# Altium footprint library wulpus.PcbLib: 62 footprints (part 4 of 4)
Each footprint in its own frame and in the unit in brackets; x right, y up, seen from the top. Pads: shape width x height; smd on the part's side, far side on the other; paste and mask are expansions set on the pad; w line width, h text height; cw(c..) or ccw(c..) is an arc to the next point about the centre after c.
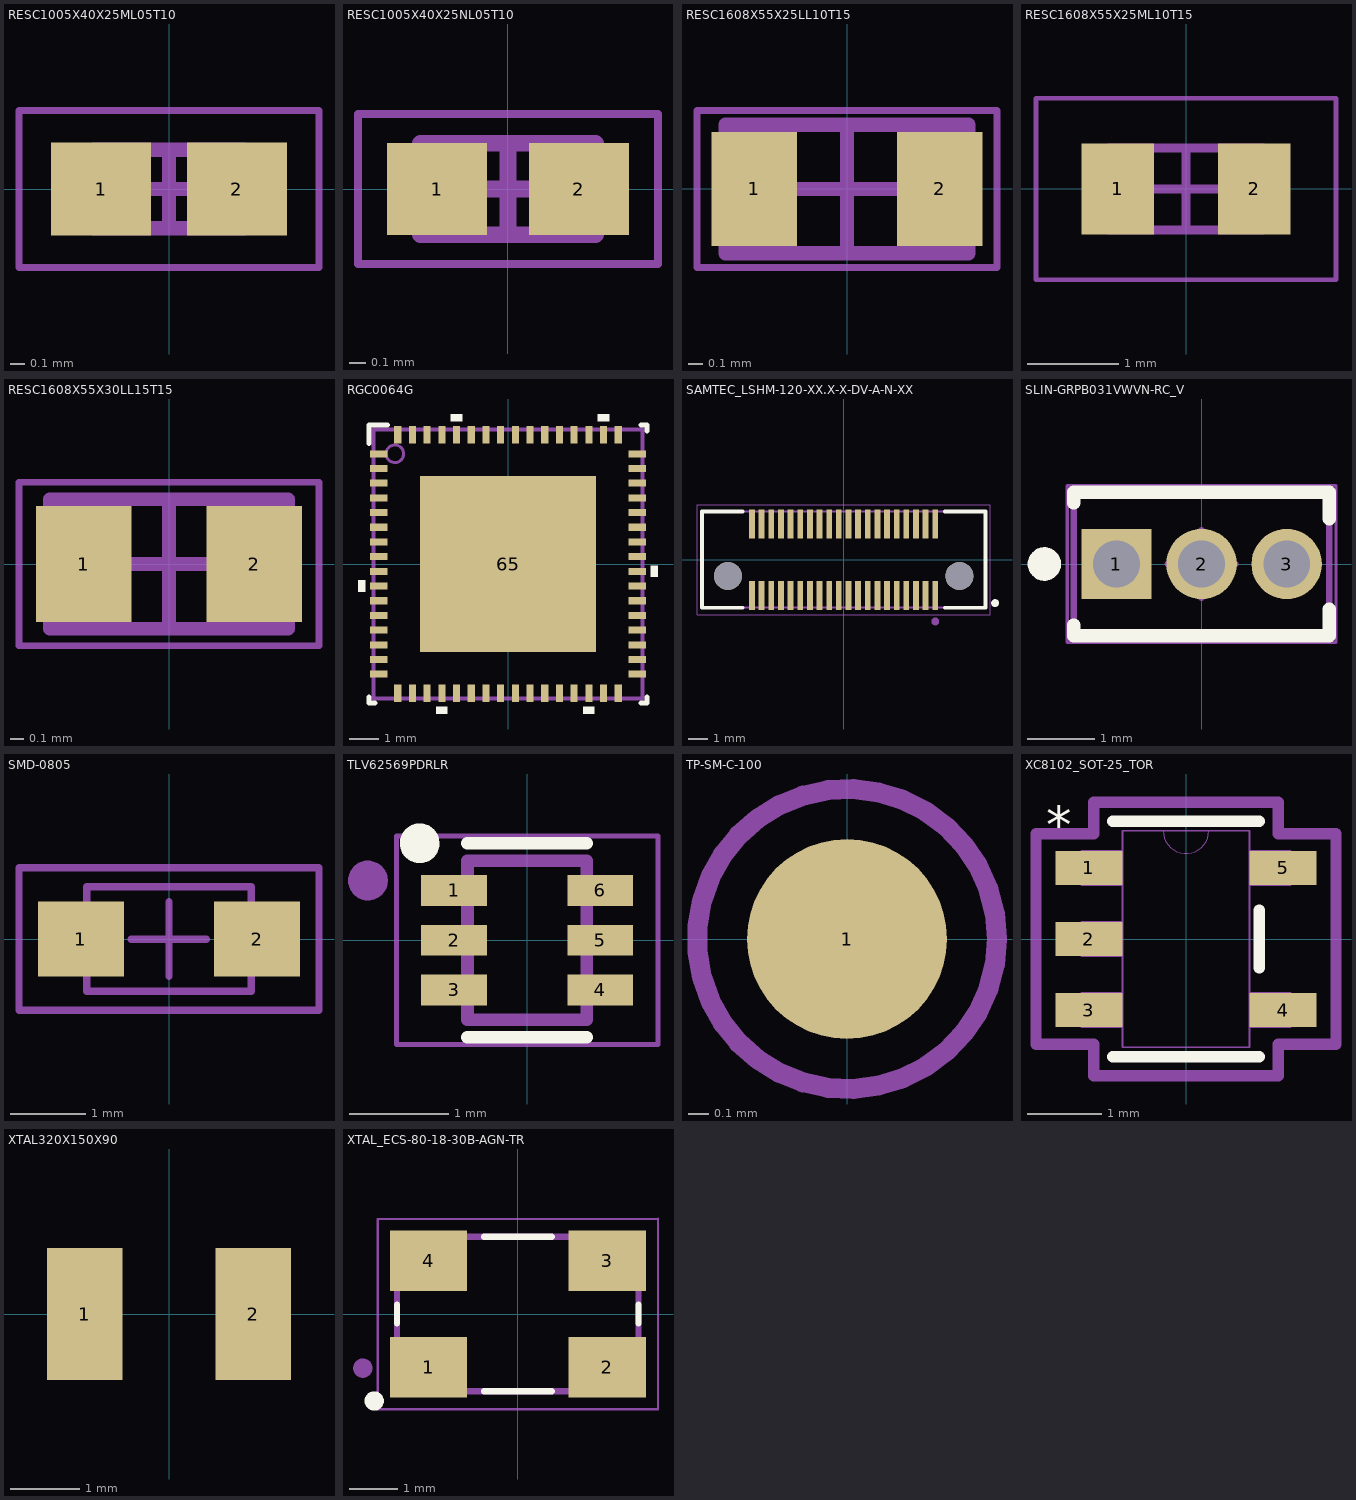
[diagram p3: the footprints below, top view; thin cyan lines are the x and y axes]

## RESC1005X40X25ML05T10 [mm]
pads (2):
  rect 0.7x0.65 smd: 1(-0.475,0) 2(0.475,0)
Top 3D Body:
  lines w0.1: -0.525,-0.275 0.525,-0.275 0.525,0.275 -0.525,0.275 -0.525,-0.275
Top Courtyard:
  lines w0.05: -1.05,-0.55 -1.05,0.55 1.05,0.55 1.05,-0.55 -1.05,-0.55
  lines w0.1: -0.275,0 0.275,0 ; 0,-0.275 0,0.275
3D body: height 0.4, standoff 0, extent 0.275,-0.275 0.525,0.275
3D body: height 0.4, standoff 0, extent -0.275,-0.275 0.275,0.275
3D body: height 0.4, standoff 0, extent -0.525,-0.275 -0.275,0.275

## RESC1005X40X25NL05T10 [mm]
pads (2):
  rect 0.6x0.55 smd: 1(-0.425,0) 2(0.425,0)
Top 3D Body:
  lines w0.1: -0.525,-0.275 0.525,-0.275 0.525,0.275 -0.525,0.275 -0.525,-0.275
Top Courtyard:
  lines w0.05: -0.9,-0.45 -0.9,0.45 0.9,0.45 0.9,-0.45 -0.9,-0.45
  lines w0.1: -0.275,0 0.275,0 ; 0,-0.275 0,0.275
3D body: height 0.4, standoff 0, extent 0.275,-0.275 0.525,0.275
3D body: height 0.4, standoff 0, extent -0.275,-0.275 0.275,0.275
3D body: height 0.4, standoff 0, extent -0.525,-0.275 -0.275,0.275

## RESC1608X55X25LL10T15 [mm]
pads (2):
  rect 0.6x0.8 smd: 1(-0.65,0) 2(0.65,0)
Top 3D Body:
  lines w0.1: -0.85,-0.45 -0.85,0.45 0.85,0.45 0.85,-0.45 -0.85,-0.45
Top Courtyard:
  lines w0.05: -1.05,-0.55 -1.05,0.55 1.05,0.55 1.05,-0.55 -1.05,-0.55
  lines w0.1: -0.45,0 0.45,0 ; 0,-0.45 0,0.45
3D body: height 0.55, standoff 0, extent -0.6,-0.45 0.6,0.45
3D body: height 0.55, standoff 0, extent -0.85,-0.45 -0.6,0.45
3D body: height 0.55, standoff 0, extent 0.6,-0.45 0.85,0.45

## RESC1608X55X25ML10T15 [mm]
pads (2):
  rect 0.8x1 smd: 1(-0.75,0) 2(0.75,0)
Top 3D Body:
  lines w0.1: -0.85,-0.45 -0.85,0.45 0.85,0.45 0.85,-0.45 -0.85,-0.45
Top Courtyard:
  lines w0.05: -1.65,-1 1.65,-1 1.65,1 -1.65,1 -1.65,-1
  lines w0.1: -0.45,0 0.45,0 ; 0,-0.45 0,0.45
3D body: height 0.55, standoff 0, extent -0.6,-0.45 0.6,0.45
3D body: height 0.55, standoff 0, extent 0.6,-0.45 0.85,0.45
3D body: height 0.55, standoff 0, extent -0.85,-0.45 -0.6,0.45

## RESC1608X55X30LL15T15 [mm]
pads (2):
  rect 0.7x0.85 smd: 1(-0.625,0) 2(0.625,0)
Top 3D Body:
  lines w0.1: -0.875,-0.475 -0.875,0.475 0.875,0.475 0.875,-0.475 -0.875,-0.475
Top Courtyard:
  lines w0.05: -1.1,-0.6 1.1,-0.6 1.1,0.6 -1.1,0.6 -1.1,-0.6
  lines w0.1: -0.475,0 0.475,0 ; 0,-0.475 0,0.475
3D body: height 0.55, standoff 0, extent 0.575,-0.475 0.875,0.475
3D body: height 0.55, standoff 0, extent -0.575,-0.475 0.575,0.475
3D body: height 0.55, standoff 0, extent -0.875,-0.475 -0.575,0.475

## RGC0064G [mm]
pads (65):
  rect 0.6x0.24 smd paste+0 mask+0: 1(-4.4,3.75) 2(-4.4,3.25) 3(-4.4,2.75) 4(-4.4,2.25) 5(-4.4,1.75) 6(-4.4,1.25) 7(-4.4,0.75) 8(-4.4,0.25) 9(-4.4,-0.25) 10(-4.4,-0.75) 11(-4.4,-1.25) 12(-4.4,-1.75) 13(-4.4,-2.25) 14(-4.4,-2.75) 15(-4.4,-3.25) 16(-4.4,-3.75) 33(4.4,-3.75) 34(4.4,-3.25) 35(4.4,-2.75) 36(4.4,-2.25) 37(4.4,-1.75) 38(4.4,-1.25) 39(4.4,-0.75) 40(4.4,-0.25) 41(4.4,0.25) 42(4.4,0.75) 43(4.4,1.25) 44(4.4,1.75) 45(4.4,2.25) 46(4.4,2.75) 47(4.4,3.25) 48(4.4,3.75)
  rect 0.24x0.6 smd paste+0 mask+0: 17(-3.751,-4.4) 18(-3.251,-4.4) 19(-2.751,-4.4) 20(-2.251,-4.4) 21(-1.75,-4.4) 22(-1.25,-4.4) 23(-0.75,-4.4) 24(-0.25,-4.4) 25(0.25,-4.4) 26(0.75,-4.4) 27(1.25,-4.4) 28(1.75,-4.4) 29(2.251,-4.4) 30(2.751,-4.4) 31(3.251,-4.4) 32(3.751,-4.4) 49(3.751,4.4) 50(3.251,4.4) 51(2.751,4.4) 52(2.251,4.4) 53(1.75,4.4) 54(1.25,4.4) 55(0.75,4.4) 56(0.25,4.4) 57(-0.25,4.4) 58(-0.75,4.4) 59(-1.25,4.4) 60(-1.75,4.4) 61(-2.251,4.4) 62(-2.751,4.4) 63(-3.251,4.4) 64(-3.751,4.4)
  rect 6x6 smd paste-3 mask+0: 65(0,0)
Top Overlay:
  region: -1.56,5.103 -1.56,4.849 -1.941,4.849 -1.941,5.103
  region: 3.441,5.103 3.441,4.849 3.06,4.849 3.06,5.103
  region: 4.849,-0.44 4.849,-0.059 5.103,-0.059 5.103,-0.44
  region: 2.941,-5.103 2.941,-4.849 2.56,-4.849 2.56,-5.103
  region: -2.06,-5.103 -2.06,-4.849 -2.441,-4.849 -2.441,-5.103
  region: -4.849,-0.941 -4.849,-0.56 -5.103,-0.56 -5.103,-0.941
  lines w0.178: -4.725,-4.525 -4.725,-4.725 -4.525,-4.725 ; -4.725,4.096 -4.725,4.725 -4.097,4.725 ; 4.525,-4.725 4.725,-4.725 4.725,-4.525 ; 4.525,4.725 4.725,4.725 4.725,4.525
Top Paste:
  region: 1.84,-1.84 1.84,-2.8 2.8,-2.8 2.8,-1.84
  region: 0.68,-1.84 0.68,-2.8 1.64,-2.8 1.64,-1.84
  region: -0.48,-1.84 -0.48,-2.8 0.48,-2.8 0.48,-1.84
  region: 1.84,-0.68 1.84,-1.64 2.8,-1.64 2.8,-0.68
  region: 0.68,-0.68 0.68,-1.64 1.64,-1.64 1.64,-0.68
  region: -1.64,-1.84 -1.64,-2.8 -0.68,-2.8 -0.68,-1.84
  region: -2.8,-1.84 -2.8,-2.8 -1.84,-2.8 -1.84,-1.84
  region: -2.8,-0.68 -2.8,-1.64 -1.84,-1.64 -1.84,-0.68
  region: -1.64,-0.68 -1.64,-1.64 -0.68,-1.64 -0.68,-0.68
  region: -0.48,-0.68 -0.48,-1.64 0.48,-1.64 0.48,-0.68
  region: 1.84,0.48 1.84,-0.48 2.8,-0.48 2.8,0.48
  region: 1.84,1.64 1.84,0.68 2.8,0.68 2.8,1.64
  region: 0.68,1.64 0.68,0.68 1.64,0.68 1.64,1.64
  region: 1.84,2.8 1.84,1.84 2.8,1.84 2.8,2.8
  region: 0.68,2.8 0.68,1.84 1.64,1.84 1.64,2.8
  region: -0.48,2.8 -0.48,1.84 0.48,1.84 0.48,2.8
  region: -1.64,2.8 -1.64,1.84 -0.68,1.84 -0.68,2.8
  region: -2.8,2.8 -2.8,1.84 -1.84,1.84 -1.84,2.8
  region: -0.48,1.64 -0.48,0.68 0.48,0.68 0.48,1.64
  region: -1.64,1.64 -1.64,0.68 -0.68,0.68 -0.68,1.64
  region: -2.8,1.64 -2.8,0.68 -1.84,0.68 -1.84,1.64
  region: -2.8,0.48 -2.8,-0.48 -1.84,-0.48 -1.84,0.48
  region: 0.68,0.48 0.68,-0.48 1.64,-0.48 1.64,0.48
  region: -1.64,0.48 -1.64,-0.48 -0.68,-0.48 -0.68,0.48
  region: -0.48,0.48 -0.48,-0.48 0.48,-0.48 0.48,0.48
Top 3D Body:
  circle w0.1: c-3.85,3.75 r0.3
  lines w0.127: -4.575,-4.575 -4.575,4.575 4.575,4.575 4.575,-4.575 -4.575,-4.575 ; -4.575,-3.9 -4.575,-3.6 -4.575,-3.9 ; -4.575,-3.4 -4.575,-3.1 -4.575,-3.4 ; -4.575,-2.9 -4.575,-2.6 -4.575,-2.9 ; -4.575,-2.4 -4.575,-2.1 -4.575,-2.4 ; -4.575,-1.9 -4.575,-1.6 -4.575,-1.9 ; -4.575,-1.4 -4.575,-1.1 -4.575,-1.4 ; -4.575,-0.9 -4.575,-0.6 -4.575,-0.9 ; -4.575,-0.4 -4.575,-0.1 -4.575,-0.4 ; -4.575,0.1 -4.575,0.4 -4.575,0.1 ; -4.575,0.6 -4.575,0.9 -4.575,0.6 ; -4.575,1.1 -4.575,1.4 -4.575,1.1 ; -4.575,1.6 -4.575,1.9 -4.575,1.6 ; -4.575,2.1 -4.575,2.4 -4.575,2.1 ; -4.575,2.6 -4.575,2.9 -4.575,2.6 ; -4.575,3.1 -4.575,3.4 -4.575,3.1 ; -4.575,3.6 -4.575,3.9 -4.575,3.6 ; -3.9,-4.575 -3.6,-4.575 -3.9,-4.575 ; -3.9,4.575 -3.6,4.575 -3.9,4.575 ; -3.4,-4.575 -3.1,-4.575 -3.4,-4.575 ; -3.4,4.575 -3.1,4.575 -3.4,4.575 ; -2.9,-4.575 -2.6,-4.575 -2.9,-4.575 ; -2.9,4.575 -2.6,4.575 -2.9,4.575 ; -2.4,-4.575 -2.1,-4.575 -2.4,-4.575 ; -2.4,4.575 -2.1,4.575 -2.4,4.575 ; -1.9,-4.575 -1.6,-4.575 -1.9,-4.575 ; -1.9,4.575 -1.6,4.575 -1.9,4.575 ; -1.4,-4.575 -1.1,-4.575 -1.4,-4.575 ; -1.4,4.575 -1.1,4.575 -1.4,4.575 ; -0.9,-4.575 -0.6,-4.575 -0.9,-4.575 ; -0.9,4.575 -0.6,4.575 -0.9,4.575 ; -0.4,-4.575 -0.1,-4.575 -0.4,-4.575 ; -0.4,4.575 -0.1,4.575 -0.4,4.575 ; 0.1,-4.575 0.4,-4.575 0.1,-4.575 ; 0.1,4.575 0.4,4.575 0.1,4.575 ; 0.6,-4.575 0.9,-4.575 0.6,-4.575 ; 0.6,4.575 0.9,4.575 0.6,4.575 ; 1.1,-4.575 1.4,-4.575 1.1,-4.575 ; 1.1,4.575 1.4,4.575 1.1,4.575 ; 1.6,-4.575 1.9,-4.575 1.6,-4.575 ; 1.6,4.575 1.9,4.575 1.6,4.575 ; 2.1,-4.575 2.4,-4.575 2.1,-4.575 ; 2.1,4.575 2.4,4.575 2.1,4.575 ; 2.6,-4.575 2.9,-4.575 2.6,-4.575 ; 2.6,4.575 2.9,4.575 2.6,4.575 ; 3.1,-4.575 3.4,-4.575 3.1,-4.575 ; 3.1,4.575 3.4,4.575 3.1,4.575 ; 3.6,-4.575 3.9,-4.575 3.6,-4.575 ; 3.6,4.575 3.9,4.575 3.6,4.575 ; 4.575,-3.9 4.575,-3.6 4.575,-3.9 ; 4.575,-3.4 4.575,-3.1 4.575,-3.4 ; 4.575,-2.9 4.575,-2.6 4.575,-2.9 ; 4.575,-2.4 4.575,-2.1 4.575,-2.4 ; 4.575,-1.9 4.575,-1.6 4.575,-1.9 ; 4.575,-1.4 4.575,-1.1 4.575,-1.4 ; 4.575,-0.9 4.575,-0.6 4.575,-0.9 ; 4.575,-0.4 4.575,-0.1 4.575,-0.4 ; 4.575,0.1 4.575,0.4 4.575,0.1 ; 4.575,0.6 4.575,0.9 4.575,0.6 ; 4.575,1.1 4.575,1.4 4.575,1.1 ; 4.575,1.6 4.575,1.9 4.575,1.6 ; 4.575,2.1 4.575,2.4 4.575,2.1 ; 4.575,2.6 4.575,2.9 4.575,2.6 ; 4.575,3.1 4.575,3.4 4.575,3.1 ; 4.575,3.6 4.575,3.9 4.575,3.6
  text ".Designator" at -1.85,-1.135 h1.27
3D body "RGC0064B.stp": height 1, standoff 0, extent -4.5,-4.5 4.5,4.5
3D body: height 0.25, standoff 0, extent 0,0 0.254,0.254

## SAMTEC_LSHM-120-XX.X-X-DV-A-N-XX [mm]
pads (42):
  rect 0.3x1.5 smd: 01(4.75,-1.85) 02(4.75,1.85) 03(4.25,-1.85) 04(4.25,1.85) 05(3.75,-1.85) 06(3.75,1.85) 07(3.25,-1.85) 08(3.25,1.85) 09(2.75,-1.85) 10(2.75,1.85) 11(2.25,-1.85) 12(2.25,1.85) 13(1.75,-1.85) 14(1.75,1.85) 15(1.25,-1.85) 16(1.25,1.85) 17(0.75,-1.85) 18(0.75,1.85) 19(0.25,-1.85) 20(0.25,1.85) 21(-0.25,-1.85) 22(-0.25,1.85) 23(-0.75,-1.85) 24(-0.75,1.85) 25(-1.25,-1.85) 26(-1.25,1.85) 27(-1.75,-1.85) 28(-1.75,1.85) 29(-2.25,-1.85) 30(-2.25,1.85) 31(-2.75,-1.85) 32(-2.75,1.85) 33(-3.25,-1.85) 34(-3.25,1.85) 35(-3.75,-1.85) 36(-3.75,1.85) 37(-4.25,-1.85) 38(-4.25,1.85) 39(-4.75,-1.85) 40(-4.75,1.85)
  round 1.45 hole 1.45 unplated: ""(-6,-0.85) ""(6,-0.85)
Top Overlay:
  circle w0.2: c7.85,-2.25 r0.1
  lines w0.2: -5.25,-2.49 -7.35,-2.49 -7.35,2.49 -5.25,2.49 ; 5.25,-2.49 7.35,-2.49 7.35,2.49 5.25,2.49
Top 3D Body:
  circle w0.2: c4.75,-3.2 r0.1
  lines w0.1: -7.35,-2.49 7.35,-2.49 7.35,2.49 -7.35,2.49 -7.35,-2.49
Top Courtyard:
  lines w0.05: -7.6,-2.85 7.6,-2.85 7.6,2.85 -7.6,2.85 -7.6,-2.85
3D body "LSHM-120-02.5-L-DV-A-N-K-TR.stp": height 4.11, standoff -0.84, extent -7.4,-2.49 7.4,2.49

## SLIN-GRPB031VWVN-RC_V [mm]
pads (3):
  rect 1.05x1.05 hole 0.7: 1(-1.27,0)
  round 1.05 hole 0.7: 2(0,0) 3(1.27,0)
Top Overlay:
  circle w0.25: c-2.345,0 r0.125
  lines w0.2: -1.905,-0.91 -1.905,-1.07 1.905,-1.07 1.905,-0.673 ; -1.905,0.91 -1.905,1.07 1.905,1.07 1.905,0.673
Top 3D Body:
  lines w0.1: -1.905,-1.07 1.905,-1.07 1.905,1.07 -1.905,1.07 -1.905,-1.07
Top Courtyard:
  lines w0.05: -2.005,-1.17 2.005,-1.17 2.005,1.17 -2.005,1.17 -2.005,-1.17
  lines w0.1: -0.5,0 0.5,0 ; 0,-0.5 0,0.5
3D body "_ _ _B031VWVN-RC.STEP": height 4, standoff -2.3, extent -1.905,-1.07 1.905,1.07

## SMD-0805 [mm]
pads (2):
  rect 1.15x1 smd: 1(-1.175,0) 2(1.175,0)
Top 3D Body:
  lines w0.1: -1.1,-0.7 -1.1,0.7 1.1,0.7 1.1,-0.7 -1.1,-0.7
Top Courtyard:
  lines w0.1: -0.5,0 0.5,0 ; 0,-0.5 0,0.5 ; -2,-0.95 2,-0.95 2,0.95 -2,0.95 -2,-0.95
3D body "74279201.stp": height 0.89, standoff -0.01, extent -1,-0.6 1,0.6

## TLV62569PDRLR [mm]
pads (6):
  rect 0.66x0.31 smd: 1(-0.735,0.5) 2(-0.735,0) 3(-0.735,-0.5) 4(0.735,-0.5) 5(0.735,0) 6(0.735,0.5)
Top Overlay:
  lines w0.127: -0.6,-0.975 0.6,-0.975 ; -0.6,0.975 0.6,0.975
  lines w0.2: -0.988,1.013 ccw(c-1.08,0.975) -0.98,0.975
Top 3D Body:
  circle w0.2: c-1.6,0.6 r0.1
  lines w0.127: -0.6,-0.8 -0.6,0.8 0.6,0.8 0.6,-0.8 -0.6,-0.8
Top Courtyard:
  lines w0.05: -1.315,-1.05 -1.315,1.05 1.315,1.05 1.315,-1.05 -1.315,-1.05
3D body "DRL0006A.stp": height 0.61, standoff 0.01, extent -0.8,-0.8 0.8,0.8

## TP-SM-C-100 [mm]
pads (1):
  round 1 smd: 1(0,0)
Top Courtyard:
  circle w0.1: c0,0 r0.75

## XC8102_SOT-25_TOR [mil]
pads (5):
  rect 35.28x18 smd paste+0 mask+0: 1(-51.14,37.4) 2(-51.14,0) 3(-51.14,-37.4) 4(51.14,-37.4) 5(51.14,37.4)
Top Overlay:
  lines w6: -38.5,-62 38.5,-62 ; -38.5,62 38.5,62 ; 38.5,-15.3 38.5,15.3
  text "*" at -73.64,50.4 h19.68
Top 3D Body:
  lines w0: -12,57 ccw(c0,57) 12,57
  lines w1: -55,-46.4 -55,-28.4 -33.5,-28.4 -33.5,-46.4 -55,-46.4 ; -55,-9 -55,9 -33.5,9 -33.5,-9 -55,-9 ; -55,28.4 -55,46.4 -33.5,46.4 -33.5,28.4 -55,28.4 ; -33.5,-57 33.5,-57 33.5,57 -33.5,57 -33.5,-57 ; 33.5,-46.4 33.5,-28.4 55,-28.4 55,-46.4 33.5,-46.4 ; 33.5,28.4 33.5,46.4 55,46.4 55,28.4 33.5,28.4
  text "*" at -36,7.4 h50
Top Courtyard:
  lines w6: -79,-55.4 -48.5,-55.4 -48.5,-72 48.5,-72 48.5,-55.4 79,-55.4 79,55.4 48.5,55.4 48.5,72 -48.5,72 -48.5,55.4 -79,55.4 -79,-55.4
3D body "XC8102_SOT-25_TOR.step": height 51.1, standoff 0, extent -55,-57.01 55,57.01

## XTAL320X150X90 [mil]
pads (2):
  rect 43x75 smd: 1(-48,0) 2(48,0)
3D body "ABS07-32.768KHZ-9-T--3DModel-STEP-400430.STEP": height 35.51, standoff 0.5, extent -63,-29.5 63,29.5

## XTAL_ECS-80-18-30B-AGN-TR [mm]
pads (4):
  rect 1.6x1.25 smd: 1(-1.85,-1.1) 2(1.85,-1.1) 3(1.85,1.1) 4(-1.85,1.1)
Top Overlay:
  circle w0.2: c-2.975,-1.8 r0.1
  lines w0.127: -2.5,-0.2 -2.5,0.2 ; -0.7,-1.6 0.7,-1.6 ; -0.7,1.6 0.7,1.6 ; 2.5,-0.2 2.5,0.2
Top 3D Body:
  circle w0.2: c-3.21,-1.12 r0.1
  lines w0.127: -2.5,-1.6 -2.5,1.6 2.5,1.6 2.5,-1.6 -2.5,-1.6
Top Courtyard:
  lines w0.05: -2.9,-1.975 -2.9,1.96 2.9,1.975 2.9,-1.975 -2.9,-1.975
3D body "ECS-80-18-30B-AGN-TR.STEP": height 0.86, standoff 0.01, extent -2.5,-1.6 2.5,1.6